# EAGLE library part DB15 (library kimth)
DIGIKEY A105027-ND
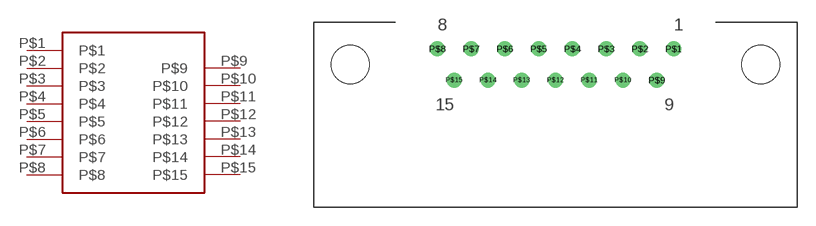
[diagram p2: symbol with the pads of DB15; footprint DB15]

Designator prefix -

## DB15  [DB15]
P$1  P$1
P$2  P$2
P$3  P$3
P$4  P$4
P$5  P$5
P$6  P$6
P$7  P$7
P$8  P$8
P$9  P$9
P$10  P$10
P$11  P$11
P$12  P$12
P$13  P$13
P$14  P$14
P$15  P$15

## Footprint DB15 (pad centres in mm)
drill 0.7: P$1 9.59,1.27; P$2 6.85,1.27; P$3 4.11,1.27; P$4 1.37,1.27; P$5 -1.37,1.27; P$6 -4.11,1.27; P$7 -6.85,1.27; P$8 -9.59,1.27; P$9 8.22,-1.27; P$10 5.48,-1.27; P$11 2.74,-1.27; P$12 0,-1.27; P$13 -2.74,-1.27; P$14 -5.48,-1.27; P$15 -8.22,-1.27
hole 3.1 at 16.65,0
hole 3.1 at -16.65,0